# EAGLE library part SSM6N7002KFU (library FaBo-Mosfet)
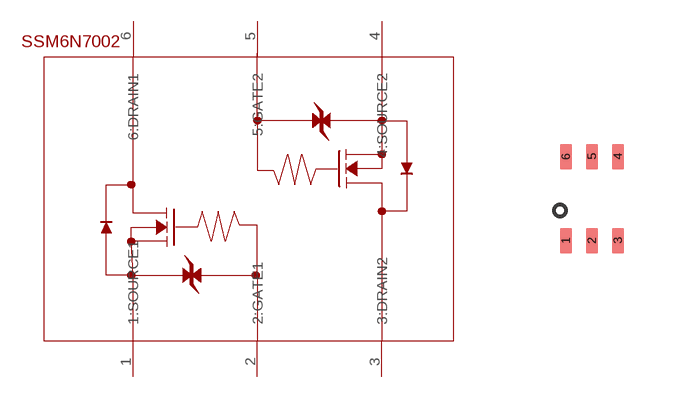
[diagram p3: symbol with the pads of US6; footprint US6]

Designator prefix -

## SSM6N7002KFU  [US6]
1  1:SOURCE1
2  2:GATE1
3  3:DRAIN2
4  4:SOURCE2
5  5:GATE2
6  6:DRAIN1

## Footprint US6 (pad centres in mm)
smd 0.3 x 0.635: 1 -0.65,-1.05; 2 0,-1.05; 3 0.65,-1.05; 4 0.65,1.05; 5 0,1.05; 6 -0.65,1.05